# EAGLE library part 615008160121 (library WR-MJ)
WR-MJ Gigabit Ethernet Modular Jacks – THT Characteristics Shieldingless and Shielded with EMI-Spring option Vertical and Horizontal orientations Tray Packaging Properties PoE++ Compatible up to 100W (IEEE 802.3bt) UL and cULus-Certified UL94-V0 reflow-compatible insulator material Ethernet Category 5e to 6A Applications Telecommunications Computing Video Internet of Things Smart Buildings <https://www.we-online.com/components/media/o161613v209%20Family_WR-MJTH_615008160021.jpg> Details see: www.we-online.com/en/components/products/WR_MJ_MODULAR_JACKS_OVER <www.we-online.com/catalog/WR_MJ_MODULAR_JACKS_OVER/?utm_source=eagle_model&utm_medium=description_link&utm_campaign=eisos_eagle> Updated by Yingchun Shan 2020-01-03 2020(C) Würth Elektronik
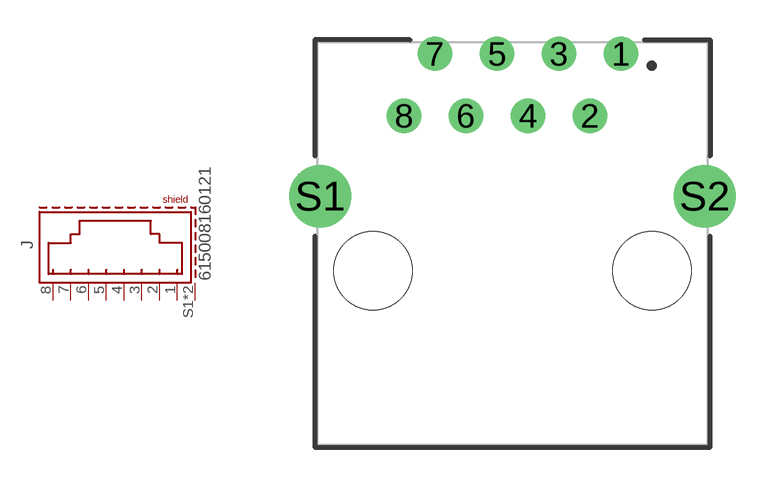
[diagram p63: symbol with the pads of 615008160121; footprint 615008160121]

Designator prefix J

## 615008160121 (APPLICATION-SYSTEM: CAT 6; DATASHEET-URL: https://www.we-online.com/redexpert/spec/615008160121?ae; EMI: No; LED: /; MOUNT: THT; PART-NUMBER: 615008160121; SIZE: Horizontal; TAB: Up; TYPE: Horizontal; VALUE: 615008160121; XPXC: 8P8C)  [615008160121]
1  1  pas
2  2  pas
3  3  pas
4  4  pas
5  5  pas
6  6  pas
7  7  pas
8  8  pas
S1  SHIELD  pas
S2  SHIELD  pas

## Footprint 615008160121 (pad centres in mm)
WR-MJ Modular Jack THT Horizontal Shielded 8P8C Tab Up
drill 0.9: 1 4.445,7.78; 2 3.175,5.24; 3 1.905,7.78; 4 0.635,5.24; 5 -0.635,7.78; 6 -1.905,5.24; 7 -3.175,7.78; 8 -4.445,5.24
drill 1.7: S1 -7.875,1.94; S2 7.875,1.94
hole 3.2 at -5.715,-1.11
hole 3.2 at 5.715,-1.11